# Altium footprint library J 接插件.PcbLib: 458 footprints (part 28 of 29)
Each footprint in its own frame and in the unit in brackets; x right, y up, seen from the top. Pads: shape width x height; smd on the part's side, far side on the other; paste and mask are expansions set on the pad; w line width, h text height; cw(c..) or ccw(c..) is an arc to the next point about the centre after c.
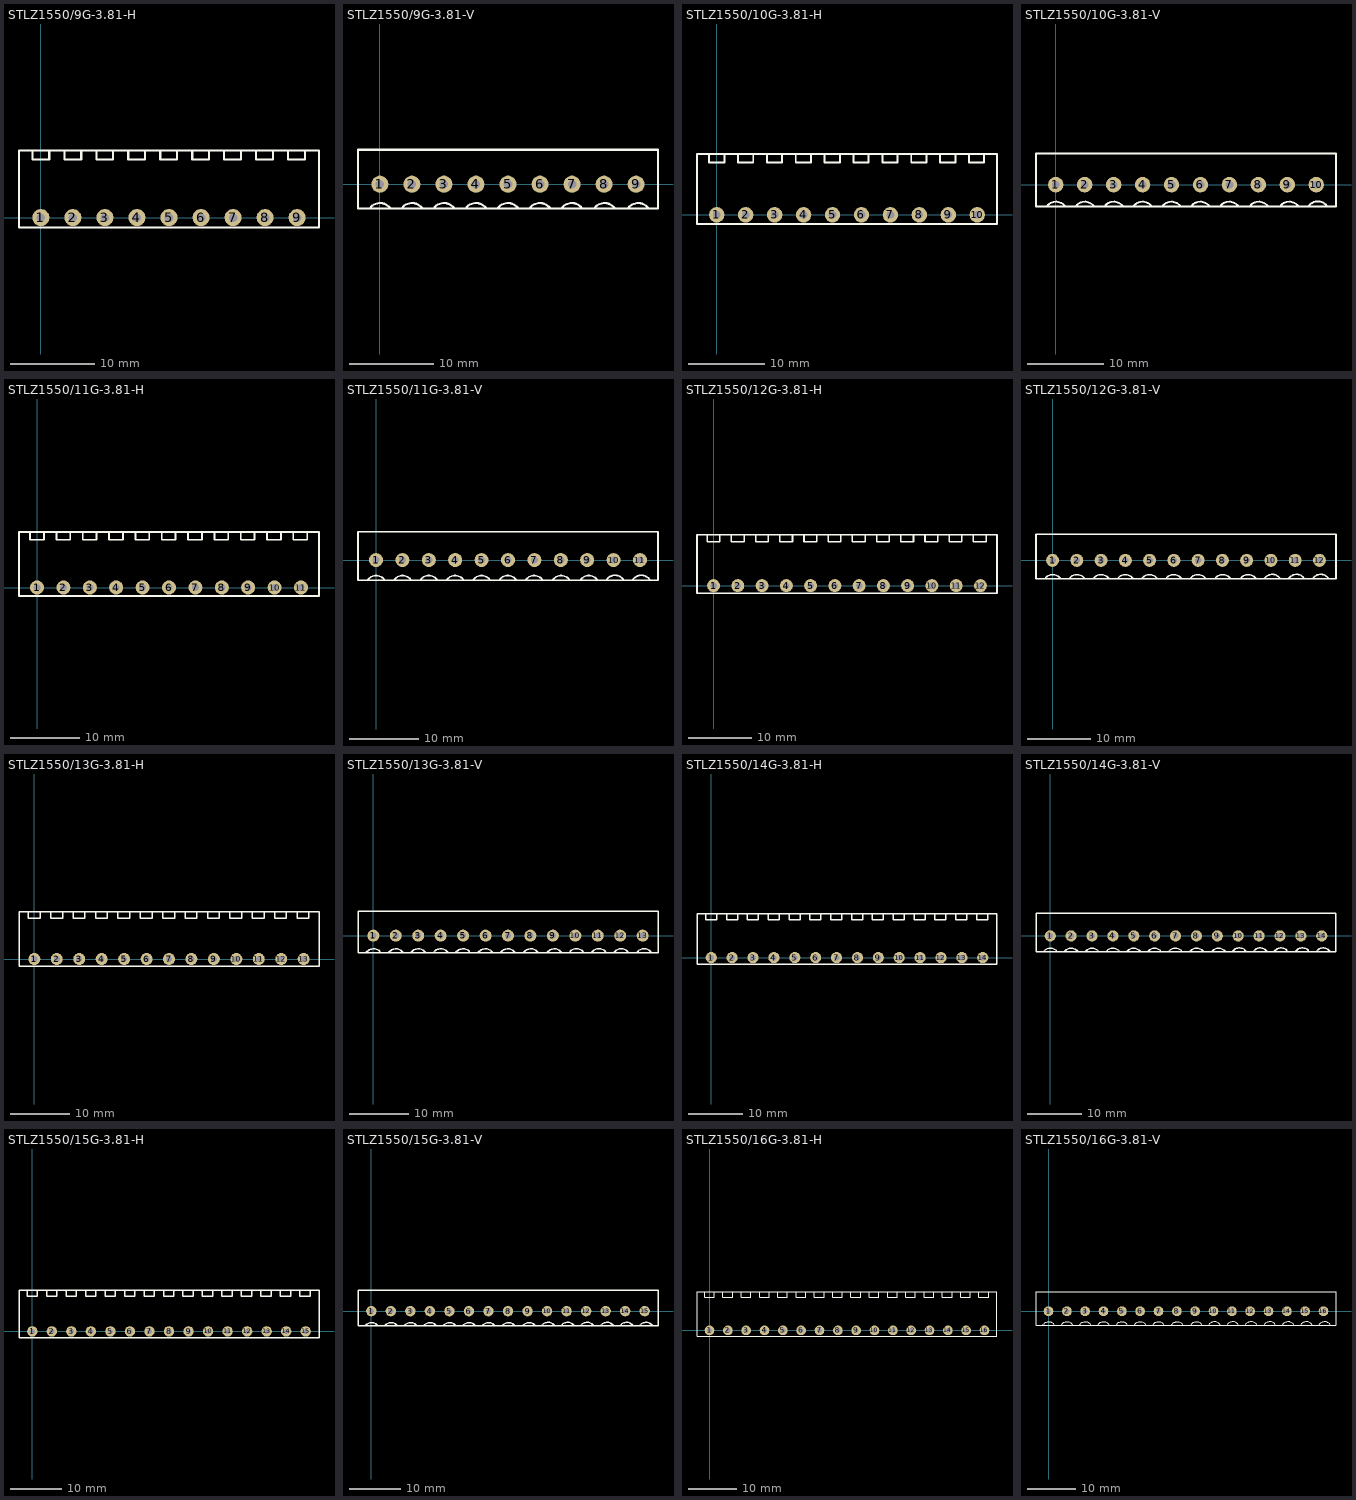
[diagram p27: the footprints below, top view; thin cyan lines are the x and y axes]

## STLZ1550/9G-3.81-H [mil] "美卡诺 STLZ1550 接触件座  间距：3.81   9Pin   弯角"
height 275.59
pads (9):
  round 80 hole 40: 1(0,0) 2(150,0) 3(300,0) 4(450,0) 5(600,0) 6(750,0) 7(900,0) 8(1050,0) 9(1200,0)
Top Overlay:
  lines w10: -39.37,311.26 -39.37,271.26 39.37,271.26 39.37,311.26 ; 110.24,311.26 110.24,271.26 188.98,271.26 188.98,311.26 ; 259.84,311.26 259.84,271.26 338.58,271.26 338.58,311.26 ; 409.45,311.26 409.45,271.26 488.19,271.26 488.19,311.26 ; 559.06,311.26 559.06,271.26 637.8,271.26 637.8,311.26 ; 708.66,311.26 708.66,271.26 787.4,271.26 787.4,311.26 ; 858.27,311.26 858.27,271.26 937.01,271.26 937.01,311.26 ; 1007.87,311.26 1007.87,271.26 1086.61,271.26 1086.61,311.26 ; 1157.48,311.26 1157.48,271.26 1236.22,271.26 1236.22,311.26 ; -102.36,-47.24 -102.36,314.96 1302.36,314.96 1302.36,-47.24 -102.36,-47.24

## STLZ1550/9G-3.81-V [mil] "美卡诺 STLZ1550 接触件座  间距：3.81   9Pin"
height 610.24
pads (9):
  round 80 hole 40: 1(0,0) 2(150,0) 3(300,0) 4(450,0) 5(600,0) 6(750,0) 7(900,0) 8(1050,0) 9(1200,0)
Top Overlay:
  lines w10: -46.11,-111.69 cw(c1.13,-147.13) 47.24,-110.24 ; 103.49,-111.69 cw(c150.74,-147.13) 196.85,-110.24 ; 253.1,-111.69 cw(c300.34,-147.13) 346.46,-110.24 ; 402.7,-111.69 cw(c449.95,-147.13) 496.06,-110.24 ; 552.31,-111.69 cw(c599.55,-147.13) 645.67,-110.24 ; 701.92,-111.69 cw(c749.16,-147.13) 795.28,-110.24 ; 851.52,-111.69 cw(c898.77,-147.13) 944.88,-110.24 ; 1005.07,-111.69 cw(c1052.31,-147.13) 1098.43,-110.24 ; 1162.55,-111.69 cw(c1209.79,-147.13) 1255.91,-110.24 ; -102.36,-114.17 -102.36,161.42 1302.36,161.42 1302.36,-114.17 -102.36,-114.17

## STLZ1550/10G-3.81-H [mil] "美卡诺 STLZ1550 接触件座  间距：3.81   10Pin   弯角"
height 275.59
pads (10):
  round 80 hole 40: 1(0,0) 2(150,0) 3(300,0) 4(450,0) 5(600,0) 6(750,0) 7(900,0) 8(1050,0) 9(1200,0) 10(1350,0)
Top Overlay:
  lines w10: -39.37,311.26 -39.37,271.26 39.37,271.26 39.37,311.26 ; 110.24,311.26 110.24,271.26 188.98,271.26 188.98,311.26 ; 259.84,311.26 259.84,271.26 338.58,271.26 338.58,311.26 ; 409.45,311.26 409.45,271.26 488.19,271.26 488.19,311.26 ; 559.06,311.26 559.06,271.26 637.8,271.26 637.8,311.26 ; 708.66,311.26 708.66,271.26 787.4,271.26 787.4,311.26 ; 858.27,311.26 858.27,271.26 937.01,271.26 937.01,311.26 ; 1007.87,311.26 1007.87,271.26 1086.61,271.26 1086.61,311.26 ; 1157.48,311.26 1157.48,271.26 1236.22,271.26 1236.22,311.26 ; 1307.09,311.26 1307.09,271.26 1385.83,271.26 1385.83,311.26 ; -102.36,-47.24 -102.36,314.96 1452.36,314.96 1452.36,-47.24 -102.36,-47.24

## STLZ1550/10G-3.81-V [mil] "美卡诺 STLZ1550 接触件座  间距：3.81   10Pin"
height 610.24
pads (10):
  round 80 hole 40: 1(0,0) 2(150,0) 3(300,0) 4(450,0) 5(600,0) 6(750,0) 7(900,0) 8(1050,0) 9(1200,0) 10(1350,0)
Top Overlay:
  lines w10: -46.11,-111.69 cw(c1.13,-147.13) 47.24,-110.24 ; 103.49,-111.69 cw(c150.74,-147.13) 196.85,-110.24 ; 253.1,-111.69 cw(c300.34,-147.13) 346.46,-110.24 ; 402.7,-111.69 cw(c449.95,-147.13) 496.06,-110.24 ; 552.31,-111.69 cw(c599.55,-147.13) 645.67,-110.24 ; 701.92,-111.69 cw(c749.16,-147.13) 795.28,-110.24 ; 851.52,-111.69 cw(c898.77,-147.13) 944.88,-110.24 ; 1005.07,-111.69 cw(c1052.31,-147.13) 1098.43,-110.24 ; 1162.55,-111.69 cw(c1209.79,-147.13) 1255.91,-110.24 ; 1310.97,-110.12 cw(c1358.22,-145.55) 1404.33,-108.66 ; -102.36,-114.17 1452.36,-114.17 1452.36,161.42 -102.36,161.42 -102.36,-114.17

## STLZ1550/11G-3.81-H [mil] "美卡诺 STLZ1550 接触件座  间距：3.81   11Pin   弯角"
height 275.59
pads (11):
  round 80 hole 40: 1(0,0) 2(150,0) 3(300,0) 4(450,0) 5(600,0) 6(750,0) 7(900,0) 8(1050,0) 9(1200,0) 10(1350,0) 11(1500,0)
Top Overlay:
  lines w10: -39.37,311.26 -39.37,271.26 39.37,271.26 39.37,311.26 ; 110.24,311.26 110.24,271.26 188.98,271.26 188.98,311.26 ; 259.84,311.26 259.84,271.26 338.58,271.26 338.58,311.26 ; 409.45,311.26 409.45,271.26 488.19,271.26 488.19,311.26 ; 559.06,311.26 559.06,271.26 637.8,271.26 637.8,311.26 ; 708.66,311.26 708.66,271.26 787.4,271.26 787.4,311.26 ; 858.27,311.26 858.27,271.26 937.01,271.26 937.01,311.26 ; 1007.87,311.26 1007.87,271.26 1086.61,271.26 1086.61,311.26 ; 1157.48,311.26 1157.48,271.26 1236.22,271.26 1236.22,311.26 ; 1307.09,311.26 1307.09,271.26 1385.83,271.26 1385.83,311.26 ; 1456.69,311.26 1456.69,271.26 1535.43,271.26 1535.43,311.26 ; -102.36,-47.24 1602.36,-47.24 1602.36,314.96 -102.36,314.96 -102.36,-47.24

## STLZ1550/11G-3.81-V [mil] "美卡诺 STLZ1550 接触件座  间距：3.81   11Pin"
height 610.24
pads (11):
  round 80 hole 40: 1(0,0) 2(150,0) 3(300,0) 4(450,0) 5(600,0) 6(750,0) 7(900,0) 8(1050,0) 9(1200,0) 10(1350,0) 11(1500,0)
Top Overlay:
  lines w10: -46.11,-111.69 cw(c1.13,-147.13) 47.24,-110.24 ; 103.49,-111.69 cw(c150.74,-147.13) 196.85,-110.24 ; 253.1,-111.69 cw(c300.34,-147.13) 346.46,-110.24 ; 402.7,-111.69 cw(c449.95,-147.13) 496.06,-110.24 ; 552.31,-111.69 cw(c599.55,-147.13) 645.67,-110.24 ; 701.92,-111.69 cw(c749.16,-147.13) 795.28,-110.24 ; 851.52,-111.69 cw(c898.77,-147.13) 944.88,-110.24 ; 1005.07,-111.69 cw(c1052.31,-147.13) 1098.43,-110.24 ; 1162.55,-111.69 cw(c1209.79,-147.13) 1255.91,-110.24 ; 1310.97,-110.12 cw(c1358.22,-145.55) 1404.33,-108.66 ; 1460.58,-110.12 cw(c1507.82,-145.55) 1553.94,-108.66 ; -102.36,-114.17 1602.36,-114.17 1602.36,161.42 -102.36,161.42 -102.36,-114.17

## STLZ1550/12G-3.81-H [mil] "美卡诺 STLZ1550 接触件座  间距：3.81   12Pin   弯角"
height 275.59
pads (12):
  round 80 hole 40: 1(0,0) 2(150,0) 3(300,0) 4(450,0) 5(600,0) 6(750,0) 7(900,0) 8(1050,0) 9(1200,0) 10(1350,0) 11(1500,0) 12(1650,0)
Top Overlay:
  lines w10: -39.37,311.26 -39.37,271.26 39.37,271.26 39.37,311.26 ; 110.24,311.26 110.24,271.26 188.98,271.26 188.98,311.26 ; 259.84,311.26 259.84,271.26 338.58,271.26 338.58,311.26 ; 409.45,311.26 409.45,271.26 488.19,271.26 488.19,311.26 ; 559.06,311.26 559.06,271.26 637.8,271.26 637.8,311.26 ; 708.66,311.26 708.66,271.26 787.4,271.26 787.4,311.26 ; 858.27,311.26 858.27,271.26 937.01,271.26 937.01,311.26 ; 1007.87,311.26 1007.87,271.26 1086.61,271.26 1086.61,311.26 ; 1157.48,311.26 1157.48,271.26 1236.22,271.26 1236.22,311.26 ; 1307.09,311.26 1307.09,271.26 1385.83,271.26 1385.83,311.26 ; 1456.69,311.26 1456.69,271.26 1535.43,271.26 1535.43,311.26 ; 1606.3,311.26 1606.3,271.26 1685.04,271.26 1685.04,311.26 ; -102.36,-47.24 1752.36,-47.24 1752.36,314.96 -102.36,314.96 -102.36,-47.24

## STLZ1550/12G-3.81-V [mil] "美卡诺 STLZ1550 接触件座  间距：3.81   12Pin"
height 610.24
pads (12):
  round 80 hole 40: 1(0,0) 2(150,0) 3(300,0) 4(450,0) 5(600,0) 6(750,0) 7(900,0) 8(1050,0) 9(1200,0) 10(1350,0) 11(1500,0) 12(1650,0)
Top Overlay:
  lines w10: -46.11,-111.69 cw(c1.13,-147.13) 47.24,-110.24 ; 103.49,-111.69 cw(c150.74,-147.13) 196.85,-110.24 ; 253.1,-111.69 cw(c300.34,-147.13) 346.46,-110.24 ; 402.7,-111.69 cw(c449.95,-147.13) 496.06,-110.24 ; 552.31,-111.69 cw(c599.55,-147.13) 645.67,-110.24 ; 701.92,-111.69 cw(c749.16,-147.13) 795.28,-110.24 ; 851.52,-111.69 cw(c898.77,-147.13) 944.88,-110.24 ; 1005.07,-111.69 cw(c1052.31,-147.13) 1098.43,-110.24 ; 1162.55,-111.69 cw(c1209.79,-147.13) 1255.91,-110.24 ; 1310.97,-110.12 cw(c1358.22,-145.55) 1404.33,-108.66 ; 1460.58,-110.12 cw(c1507.82,-145.55) 1553.94,-108.66 ; 1610.18,-110.12 cw(c1657.43,-145.55) 1703.54,-108.66 ; -102.36,-114.17 1752.36,-114.17 1752.36,161.42 -102.36,161.42 -102.36,-114.17

## STLZ1550/13G-3.81-H [mil] "美卡诺 STLZ1550 接触件座  间距：3.81   13Pin   弯角"
height 275.59
pads (13):
  round 80 hole 40: 1(0,0) 2(150,0) 3(300,0) 4(450,0) 5(600,0) 6(750,0) 7(900,0) 8(1050,0) 9(1200,0) 10(1350,0) 11(1500,0) 12(1650,0) 13(1800,0)
Top Overlay:
  lines w10: -39.37,311.26 -39.37,271.26 39.37,271.26 39.37,311.26 ; 110.24,311.26 110.24,271.26 188.98,271.26 188.98,311.26 ; 259.84,311.26 259.84,271.26 338.58,271.26 338.58,311.26 ; 409.45,311.26 409.45,271.26 488.19,271.26 488.19,311.26 ; 559.06,311.26 559.06,271.26 637.8,271.26 637.8,311.26 ; 708.66,311.26 708.66,271.26 787.4,271.26 787.4,311.26 ; 858.27,311.26 858.27,271.26 937.01,271.26 937.01,311.26 ; 1007.87,311.26 1007.87,271.26 1086.61,271.26 1086.61,311.26 ; 1157.48,311.26 1157.48,271.26 1236.22,271.26 1236.22,311.26 ; 1307.09,311.26 1307.09,271.26 1385.83,271.26 1385.83,311.26 ; 1456.69,311.26 1456.69,271.26 1535.43,271.26 1535.43,311.26 ; 1606.3,311.26 1606.3,271.26 1685.04,271.26 1685.04,311.26 ; 1755.91,311.26 1755.91,271.26 1834.65,271.26 1834.65,311.26 ; -102.36,-47.24 1902.36,-47.24 1902.36,314.96 -102.36,314.96 -102.36,-47.24

## STLZ1550/13G-3.81-V [mil] "美卡诺 STLZ1550 接触件座  间距：3.81   13Pin"
height 610.24
pads (13):
  round 80 hole 40: 1(0,0) 2(150,0) 3(300,0) 4(450,0) 5(600,0) 6(750,0) 7(900,0) 8(1050,0) 9(1200,0) 10(1350,0) 11(1500,0) 12(1650,0) 13(1800,0)
Top Overlay:
  lines w10: -46.11,-111.69 cw(c1.13,-147.13) 47.24,-110.24 ; 103.49,-111.69 cw(c150.74,-147.13) 196.85,-110.24 ; 253.1,-111.69 cw(c300.34,-147.13) 346.46,-110.24 ; 402.7,-111.69 cw(c449.95,-147.13) 496.06,-110.24 ; 552.31,-111.69 cw(c599.55,-147.13) 645.67,-110.24 ; 701.92,-111.69 cw(c749.16,-147.13) 795.28,-110.24 ; 851.52,-111.69 cw(c898.77,-147.13) 944.88,-110.24 ; 1005.07,-111.69 cw(c1052.31,-147.13) 1098.43,-110.24 ; 1162.55,-111.69 cw(c1209.79,-147.13) 1255.91,-110.24 ; 1310.97,-110.12 cw(c1358.22,-145.55) 1404.33,-108.66 ; 1460.58,-110.12 cw(c1507.82,-145.55) 1553.94,-108.66 ; 1610.18,-110.12 cw(c1657.43,-145.55) 1703.54,-108.66 ; 1763.73,-110.12 cw(c1810.97,-145.55) 1857.09,-108.66 ; -102.36,-114.17 1902.36,-114.17 1902.36,161.42 -102.36,161.42 -102.36,-114.17

## STLZ1550/14G-3.81-H [mil] "美卡诺 STLZ1550 接触件座  间距：3.81   14Pin   弯角"
height 275.59
pads (14):
  round 80 hole 40: 1(0,0) 2(150,0) 3(300,0) 4(450,0) 5(600,0) 6(750,0) 7(900,0) 8(1050,0) 9(1200,0) 10(1350,0) 11(1500,0) 12(1650,0) 13(1800,0) 14(1950,0)
Top Overlay:
  lines w10: -39.37,311.26 -39.37,271.26 39.37,271.26 39.37,311.26 ; 110.24,311.26 110.24,271.26 188.98,271.26 188.98,311.26 ; 259.84,311.26 259.84,271.26 338.58,271.26 338.58,311.26 ; 409.45,311.26 409.45,271.26 488.19,271.26 488.19,311.26 ; 559.06,311.26 559.06,271.26 637.8,271.26 637.8,311.26 ; 708.66,311.26 708.66,271.26 787.4,271.26 787.4,311.26 ; 858.27,311.26 858.27,271.26 937.01,271.26 937.01,311.26 ; 1007.87,311.26 1007.87,271.26 1086.61,271.26 1086.61,311.26 ; 1157.48,311.26 1157.48,271.26 1236.22,271.26 1236.22,311.26 ; 1307.09,311.26 1307.09,271.26 1385.83,271.26 1385.83,311.26 ; 1456.69,311.26 1456.69,271.26 1535.43,271.26 1535.43,311.26 ; 1606.3,311.26 1606.3,271.26 1685.04,271.26 1685.04,311.26 ; 1755.91,311.26 1755.91,271.26 1834.65,271.26 1834.65,311.26 ; 1905.51,311.26 1905.51,271.26 1984.25,271.26 1984.25,311.26 ; -102.36,-47.24 -102.36,314.96 2052.36,314.96 2052.36,-47.24 -102.36,-47.24

## STLZ1550/14G-3.81-V [mil] "美卡诺 STLZ1550 接触件座  间距：3.81   14Pin"
height 610.24
pads (14):
  round 80 hole 40: 1(0,0) 2(150,0) 3(300,0) 4(450,0) 5(600,0) 6(750,0) 7(900,0) 8(1050,0) 9(1200,0) 10(1350,0) 11(1500,0) 12(1650,0) 13(1800,0) 14(1950,0)
Top Overlay:
  lines w10: -46.11,-111.69 cw(c1.13,-147.13) 47.24,-110.24 ; 103.49,-111.69 cw(c150.74,-147.13) 196.85,-110.24 ; 253.1,-111.69 cw(c300.34,-147.13) 346.46,-110.24 ; 402.7,-111.69 cw(c449.95,-147.13) 496.06,-110.24 ; 552.31,-111.69 cw(c599.55,-147.13) 645.67,-110.24 ; 701.92,-111.69 cw(c749.16,-147.13) 795.28,-110.24 ; 851.52,-111.69 cw(c898.77,-147.13) 944.88,-110.24 ; 1005.07,-111.69 cw(c1052.31,-147.13) 1098.43,-110.24 ; 1162.55,-111.69 cw(c1209.79,-147.13) 1255.91,-110.24 ; 1310.97,-110.12 cw(c1358.22,-145.55) 1404.33,-108.66 ; 1460.58,-110.12 cw(c1507.82,-145.55) 1553.94,-108.66 ; 1610.18,-110.12 cw(c1657.43,-145.55) 1703.54,-108.66 ; 1763.73,-110.12 cw(c1810.97,-145.55) 1857.09,-108.66 ; 1913.33,-110.12 cw(c1960.58,-145.55) 2006.69,-108.66 ; -102.36,-114.17 -102.36,161.42 2052.36,161.42 2052.36,-114.17 -102.36,-114.17

## STLZ1550/15G-3.81-H [mil] "美卡诺 STLZ1550 接触件座  间距：3.81   15Pin   弯角"
height 275.59
pads (15):
  round 80 hole 40: 1(0,0) 2(150,0) 3(300,0) 4(450,0) 5(600,0) 6(750,0) 7(900,0) 8(1050,0) 9(1200,0) 10(1350,0) 11(1500,0) 12(1650,0) 13(1800,0) 14(1950,0) 15(2100,0)
Top Overlay:
  lines w10: -39.37,311.26 -39.37,271.26 39.37,271.26 39.37,311.26 ; 110.24,311.26 110.24,271.26 188.98,271.26 188.98,311.26 ; 259.84,311.26 259.84,271.26 338.58,271.26 338.58,311.26 ; 409.45,311.26 409.45,271.26 488.19,271.26 488.19,311.26 ; 559.06,311.26 559.06,271.26 637.8,271.26 637.8,311.26 ; 708.66,311.26 708.66,271.26 787.4,271.26 787.4,311.26 ; 858.27,311.26 858.27,271.26 937.01,271.26 937.01,311.26 ; 1007.87,311.26 1007.87,271.26 1086.61,271.26 1086.61,311.26 ; 1157.48,311.26 1157.48,271.26 1236.22,271.26 1236.22,311.26 ; 1307.09,311.26 1307.09,271.26 1385.83,271.26 1385.83,311.26 ; 1456.69,311.26 1456.69,271.26 1535.43,271.26 1535.43,311.26 ; 1606.3,311.26 1606.3,271.26 1685.04,271.26 1685.04,311.26 ; 1755.91,311.26 1755.91,271.26 1834.65,271.26 1834.65,311.26 ; 1905.51,311.26 1905.51,271.26 1984.25,271.26 1984.25,311.26 ; 2055.12,311.26 2055.12,271.26 2133.86,271.26 2133.86,311.26 ; -102.36,-47.24 2202.36,-47.24 2202.36,314.96 -102.36,314.96 -102.36,-47.24

## STLZ1550/15G-3.81-V [mil] "美卡诺 STLZ1550 接触件座  间距：3.81   15Pin"
height 610.24
pads (15):
  round 80 hole 40: 1(0,0) 2(150,0) 3(300,0) 4(450,0) 5(600,0) 6(750,0) 7(900,0) 8(1050,0) 9(1200,0) 10(1350,0) 11(1500,0) 12(1650,0) 13(1800,0) 14(1950,0) 15(2100,0)
Top Overlay:
  lines w10: -46.11,-111.69 cw(c1.13,-147.13) 47.24,-110.24 ; 103.49,-111.69 cw(c150.74,-147.13) 196.85,-110.24 ; 253.1,-111.69 cw(c300.34,-147.13) 346.46,-110.24 ; 402.7,-111.69 cw(c449.95,-147.13) 496.06,-110.24 ; 552.31,-111.69 cw(c599.55,-147.13) 645.67,-110.24 ; 701.92,-111.69 cw(c749.16,-147.13) 795.28,-110.24 ; 851.52,-111.69 cw(c898.77,-147.13) 944.88,-110.24 ; 1005.07,-111.69 cw(c1052.31,-147.13) 1098.43,-110.24 ; 1162.55,-111.69 cw(c1209.79,-147.13) 1255.91,-110.24 ; 1310.97,-110.12 cw(c1358.22,-145.55) 1404.33,-108.66 ; 1460.58,-110.12 cw(c1507.82,-145.55) 1553.94,-108.66 ; 1610.18,-110.12 cw(c1657.43,-145.55) 1703.54,-108.66 ; 1763.73,-110.12 cw(c1810.97,-145.55) 1857.09,-108.66 ; 1913.33,-110.12 cw(c1960.58,-145.55) 2006.69,-108.66 ; 2062.94,-110.12 cw(c2110.18,-145.55) 2156.3,-108.66 ; -102.36,-114.17 -102.36,161.42 2202.36,161.42 2202.36,-114.17 -102.36,-114.17

## STLZ1550/16G-3.81-H [mil] "美卡诺 STLZ1550 接触件座  间距：3.81   16Pin   弯角"
height 275.59
pads (16):
  round 80 hole 40: 1(0,0) 2(150,0) 3(300,0) 4(450,0) 5(600,0) 6(750,0) 7(900,0) 8(1050,0) 9(1200,0) 10(1350,0) 11(1500,0) 12(1650,0) 13(1800,0) 14(1950,0) 15(2100,0) 16(2250,0)
Top Overlay:
  lines w10: -39.37,311.26 -39.37,271.26 39.37,271.26 39.37,311.26 ; 110.24,311.26 110.24,271.26 188.98,271.26 188.98,311.26 ; 259.84,311.26 259.84,271.26 338.58,271.26 338.58,311.26 ; 409.45,311.26 409.45,271.26 488.19,271.26 488.19,311.26 ; 559.06,311.26 559.06,271.26 637.8,271.26 637.8,311.26 ; 708.66,311.26 708.66,271.26 787.4,271.26 787.4,311.26 ; 858.27,311.26 858.27,271.26 937.01,271.26 937.01,311.26 ; 1007.87,311.26 1007.87,271.26 1086.61,271.26 1086.61,311.26 ; 1157.48,311.26 1157.48,271.26 1236.22,271.26 1236.22,311.26 ; 1307.09,311.26 1307.09,271.26 1385.83,271.26 1385.83,311.26 ; 1456.69,311.26 1456.69,271.26 1535.43,271.26 1535.43,311.26 ; 1606.3,311.26 1606.3,271.26 1685.04,271.26 1685.04,311.26 ; 1755.91,311.26 1755.91,271.26 1834.65,271.26 1834.65,311.26 ; 1905.51,311.26 1905.51,271.26 1984.25,271.26 1984.25,311.26 ; 2055.12,311.26 2055.12,271.26 2133.86,271.26 2133.86,311.26 ; 2204.72,311.26 2204.72,271.26 2283.46,271.26 2283.46,311.26 ; -102.36,-47.24 2352.36,-47.24 2352.36,314.96 -102.36,314.96 -102.36,-47.24

## STLZ1550/16G-3.81-V [mil] "美卡诺 STLZ1550 接触件座  间距：3.81   16Pin"
height 610.24
pads (16):
  round 80 hole 40: 1(0,0) 2(150,0) 3(300,0) 4(450,0) 5(600,0) 6(750,0) 7(900,0) 8(1050,0) 9(1200,0) 10(1350,0) 11(1500,0) 12(1650,0) 13(1800,0) 14(1950,0) 15(2100,0) 16(2250,0)
Top Overlay:
  lines w10: -46.11,-111.69 cw(c1.13,-147.13) 47.24,-110.24 ; 103.49,-111.69 cw(c150.74,-147.13) 196.85,-110.24 ; 253.1,-111.69 cw(c300.34,-147.13) 346.46,-110.24 ; 402.7,-111.69 cw(c449.95,-147.13) 496.06,-110.24 ; 552.31,-111.69 cw(c599.55,-147.13) 645.67,-110.24 ; 701.92,-111.69 cw(c749.16,-147.13) 795.28,-110.24 ; 851.52,-111.69 cw(c898.77,-147.13) 944.88,-110.24 ; 1005.07,-111.69 cw(c1052.31,-147.13) 1098.43,-110.24 ; 1162.55,-111.69 cw(c1209.79,-147.13) 1255.91,-110.24 ; 1310.97,-110.12 cw(c1358.22,-145.55) 1404.33,-108.66 ; 1460.58,-110.12 cw(c1507.82,-145.55) 1553.94,-108.66 ; 1610.18,-110.12 cw(c1657.43,-145.55) 1703.54,-108.66 ; 1763.73,-110.12 cw(c1810.97,-145.55) 1857.09,-108.66 ; 1913.33,-110.12 cw(c1960.58,-145.55) 2006.69,-108.66 ; 2062.94,-110.12 cw(c2110.18,-145.55) 2156.3,-108.66 ; 2212.55,-110.12 cw(c2259.79,-145.55) 2305.91,-108.66 ; 2351.97,161.42 2352.36,-114.17 -102.36,-114.17 -102.36,161.42 2352.36,161.42